# EAGLE library part SR-GPS (library IC)
The SR Series GPS receiver module is a selfcontained high-performance GPS receiver with an on-board antenna, LNA and SAW filter. Based on the SiRFstar III chipset, it provides exceptional sensitivity, even in dense foliage and urban canyons. The module?s very low power consumption helps maximize runtimes in battery powered applications.
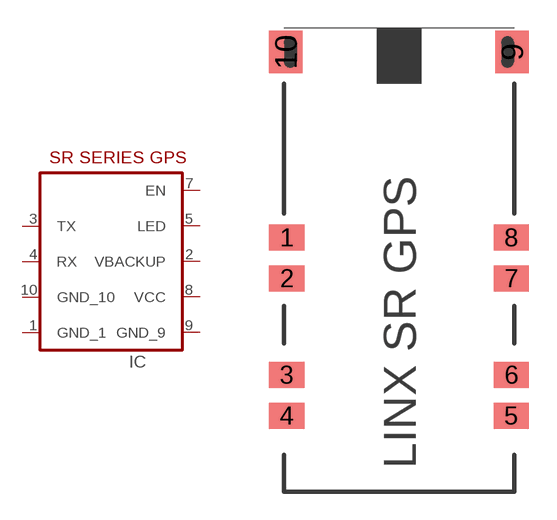
[diagram p185: symbol with the pads of SR-GPS; footprint SR-GPS]

Designator prefix IC

## SR-GPS-SR-GPS  [SR-GPS]
1  GND_1
2  VBACKUP
3  TX
4  RX
5  LED
7  EN
8  VCC
9  GND_9
10  GND_10

## Footprint SR-GPS (pad centres in mm)
The SR Series GPS receiver module is a selfcontained high-performance GPS receiver with an on-board antenna, LNA and SAW filter. Based on the SiRFstar III chipset, it provides exceptional sensitivity, even in dense foliage and urban canyons.
smd 1.9 x 1.4: 1 0.15,-11.3; 2 0.15,-13.5; 3 0.15,-18.7; 4 0.15,-20.9; 5 12.25,-20.9; 6 12.25,-18.7; 7 12.25,-13.5; 8 12.25,-11.3
smd 1.8 x 2.3: 9 12.3,-1.3; 10 0.1,-1.3